# Altium schematic symbol library SCH - DRIVER - GATE - TI UCC27517DBVR.SchLib: 1 symbol
Pins are listed as number, name and electrical type; pins without a type are passive.

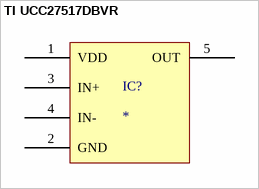
[diagram p0: symbol TI UCC27517DBVR]

## TI UCC27517DBVR
designator IC?
pins: 1 VDD, 2 GND, 3 IN+, 4 IN-, 5 OUT